# Altium footprint library Header.PcbLib: 27 footprints (part 2 of 2)
Each footprint in its own frame and in the unit in brackets; x right, y up, seen from the top. Pads: shape width x height; smd on the part's side, far side on the other; paste and mask are expansions set on the pad; w line width, h text height; cw(c..) or ccw(c..) is an arc to the next point about the centre after c.
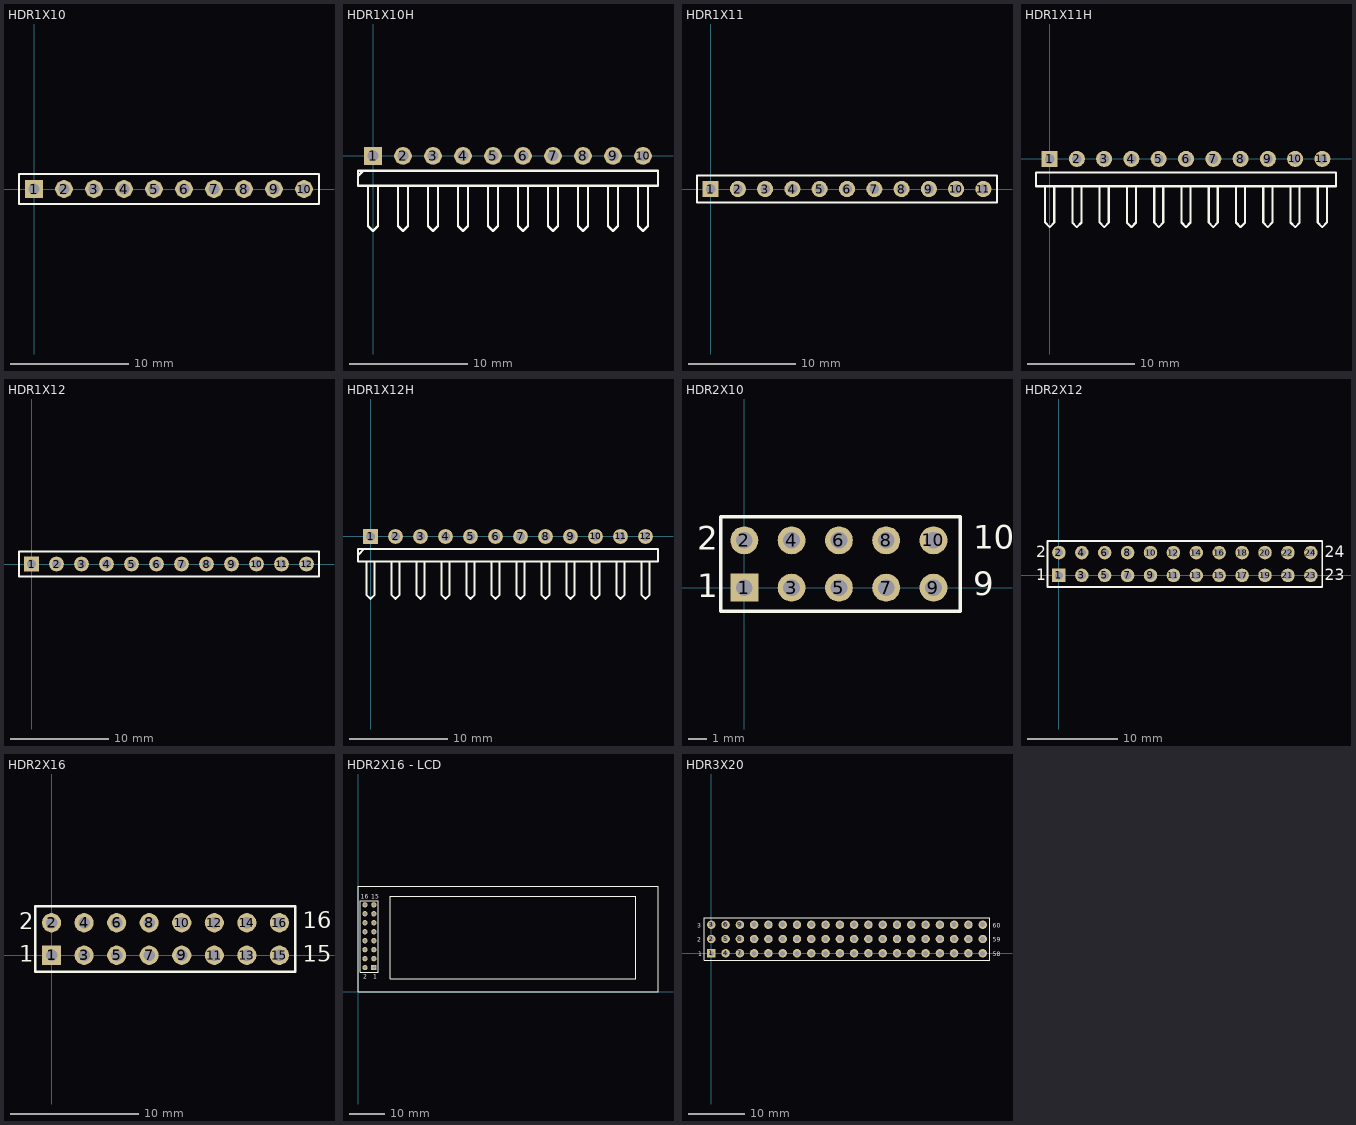
[diagram p1: the footprints below, top view; thin cyan lines are the x and y axes]

## HDR1X10 [mm] "Connector; Header; 10 Position"
height 2.2
pads (10):
  rect 1.5x1.5 hole 0.9: 1(0,0)
  round 1.5 hole 0.9: 2(2.54,0) 3(5.08,0) 4(7.62,0) 5(10.16,0) 6(12.7,0) 7(15.24,0) 8(17.78,0) 9(20.32,0) 10(22.86,0)
Top Overlay:
  lines w0.2: -1.27,-1.27 -1.27,1.27 0.635,1.27 24.13,1.27 24.13,-1.27 -1.27,-1.27
3D body "SW3dPS-0_1inch pin strip10.step": height 10.1, standoff -1.5, extent -1.27,-1.27 24.13,1.27

## HDR1X10H [mm] "Connector; Header; 10 Position; Right Angle"
height 2.2
pads (10):
  rect 1.5x1.5 hole 0.9: 1(0,0)
  round 1.5 hole 0.9: 2(2.54,0) 3(5.08,0) 4(7.62,0) 5(10.16,0) 6(12.7,0) 7(15.24,0) 8(17.78,0) 9(20.32,0) 10(22.86,0)
Top Overlay:
  lines w0.2: -1.27,-1.693 -0.847,-1.27 ; -0.423,-2.54 -0.423,-5.927 0,-6.35 0.423,-5.927 0.423,-2.54 ; 2.117,-2.54 2.117,-5.927 2.54,-6.35 2.963,-5.927 2.963,-2.54 ; 4.657,-2.54 4.657,-5.927 5.08,-6.35 5.503,-5.927 5.503,-2.54 ; 7.197,-2.54 7.197,-5.927 7.62,-6.35 8.043,-5.927 8.043,-2.54 ; 9.737,-2.54 9.737,-5.927 10.16,-6.35 10.583,-5.927 10.583,-2.54 ; 12.277,-2.54 12.277,-5.927 12.7,-6.35 13.123,-5.927 13.123,-2.54 ; 14.817,-2.54 14.817,-5.927 15.24,-6.35 15.663,-5.927 15.663,-2.54 ; 17.357,-2.54 17.357,-5.927 17.78,-6.35 18.203,-5.927 18.203,-2.54 ; 19.897,-2.54 19.897,-5.927 20.32,-6.35 20.743,-5.927 20.743,-2.54 ; 22.437,-2.54 22.437,-5.927 22.86,-6.35 23.283,-5.927 23.283,-2.54 ; -1.27,-2.54 24.13,-2.54 24.13,-1.27 0.635,-1.27 -1.27,-1.27 -1.27,-2.54
3D body "SW3dPS-0_1inch pin strip right angle10.step": height 4.33, standoff -3, extent -1.27,-7 24.13,1.27

## HDR1X11 [mm] "Connector; Header; 11 Position"
height 2.2
pads (11):
  rect 1.5x1.5 hole 0.9: 1(0,0)
  round 1.5 hole 0.9: 2(2.54,0) 3(5.08,0) 4(7.62,0) 5(10.16,0) 6(12.7,0) 7(15.24,0) 8(17.78,0) 9(20.32,0) 10(22.86,0) 11(25.4,0)
Top Overlay:
  lines w0.2: -1.27,-1.27 -1.27,1.27 0.635,1.27 26.67,1.27 26.67,-1.27 -1.27,-1.27
3D body "SW3dPS-0_1inch pin strip11.step": height 10.1, standoff -1.5, extent -1.27,-1.27 26.67,1.27

## HDR1X11H [mm] "Connector; Header; 11 Position; Right Angle"
height 2.2
pads (11):
  rect 1.5x1.5 hole 0.9: 1(0,0)
  round 1.5 hole 0.9: 2(2.54,0) 3(5.08,0) 4(7.62,0) 5(10.16,0) 6(12.7,0) 7(15.24,0) 8(17.78,0) 9(20.32,0) 10(22.86,0) 11(25.4,0)
Top Overlay:
  lines w0.2: -0.423,-2.54 -0.423,-5.927 0,-6.35 0.423,-5.927 0.423,-2.54 ; 2.117,-2.54 2.117,-5.927 2.54,-6.35 2.963,-5.927 2.963,-2.54 ; 4.657,-2.54 4.657,-5.927 5.08,-6.35 5.503,-5.927 5.503,-2.54 ; 7.197,-2.54 7.197,-5.927 7.62,-6.35 8.043,-5.927 8.043,-2.54 ; 9.737,-2.54 9.737,-5.927 10.16,-6.35 10.583,-5.927 10.583,-2.54 ; 12.277,-2.54 12.277,-5.927 12.7,-6.35 13.123,-5.927 13.123,-2.54 ; 14.817,-2.54 14.817,-5.927 15.24,-6.35 15.663,-5.927 15.663,-2.54 ; 17.357,-2.54 17.357,-5.927 17.78,-6.35 18.203,-5.927 18.203,-2.54 ; 19.897,-2.54 19.897,-5.927 20.32,-6.35 20.743,-5.927 20.743,-2.54 ; 22.437,-2.54 22.437,-5.927 22.86,-6.35 23.283,-5.927 23.283,-2.54 ; 24.977,-2.54 24.977,-5.927 25.4,-6.35 25.823,-5.927 25.823,-2.54 ; -1.27,-2.54 26.67,-2.54 26.67,-1.27 -1.27,-1.27 -1.27,-2.54
3D body "SW3dPS-0_1inch pin strip right angle11.step": height 4.33, standoff -3, extent -1.27,-7 26.67,1.27

## HDR1X12 [mm] "Connector; Header; 12 Position"
height 2.2
pads (12):
  rect 1.5x1.5 hole 0.9: 1(0,0)
  round 1.5 hole 0.9: 2(2.54,0) 3(5.08,0) 4(7.62,0) 5(10.16,0) 6(12.7,0) 7(15.24,0) 8(17.78,0) 9(20.32,0) 10(22.86,0) 11(25.4,0) 12(27.94,0)
Top Overlay:
  lines w0.2: -1.27,-1.27 29.21,-1.27 29.21,1.27 0.635,1.27 -1.27,1.27 -1.27,-1.27
3D body "SW3dPS-0_1inch pin strip12.step": height 10.1, standoff -1.5, extent -1.27,-1.27 29.21,1.27

## HDR1X12H [mm] "Connector; Header; 12 Position; Right Angle"
height 2.2
pads (12):
  rect 1.5x1.5 hole 0.9: 1(0,0)
  round 1.5 hole 0.9: 2(2.54,0) 3(5.08,0) 4(7.62,0) 5(10.16,0) 6(12.7,0) 7(15.24,0) 8(17.78,0) 9(20.32,0) 10(22.86,0) 11(25.4,0) 12(27.94,0)
Top Overlay:
  lines w0.2: -1.27,-1.905 -0.635,-1.27 ; -0.423,-2.54 -0.423,-5.927 0,-6.35 0.423,-5.927 0.423,-2.54 ; 2.117,-2.54 2.117,-5.927 2.54,-6.35 2.963,-5.927 2.963,-2.54 ; 4.657,-2.54 4.657,-5.927 5.08,-6.35 5.503,-5.927 5.503,-2.54 ; 7.197,-2.54 7.197,-5.927 7.62,-6.35 8.043,-5.927 8.043,-2.54 ; 9.737,-2.54 9.737,-5.927 10.16,-6.35 10.583,-5.927 10.583,-2.54 ; 12.277,-2.54 12.277,-5.927 12.7,-6.35 13.123,-5.927 13.123,-2.54 ; 14.817,-2.54 14.817,-5.927 15.24,-6.35 15.663,-5.927 15.663,-2.54 ; 17.357,-2.54 17.357,-5.927 17.78,-6.35 18.203,-5.927 18.203,-2.54 ; 19.897,-2.54 19.897,-5.927 20.32,-6.35 20.743,-5.927 20.743,-2.54 ; 22.437,-2.54 22.437,-5.927 22.86,-6.35 23.283,-5.927 23.283,-2.54 ; 24.977,-2.54 24.977,-5.927 25.4,-6.35 25.823,-5.927 25.823,-2.54 ; 27.517,-2.54 27.517,-5.927 27.94,-6.35 28.363,-5.927 28.363,-2.54 ; -1.27,-2.54 -1.27,-1.27 0.635,-1.27 29.21,-1.27 29.21,-2.54 -1.27,-2.54
3D body "SW3dPS-0_1inch pin strip right angle12.step": height 4.33, standoff -3, extent -1.27,-7 29.21,1.27

## HDR2X10 [mm] "Connector; Header; 25x2 Position"
pads (10):
  rect 1.5x1.5 hole 0.9: 1(0,0)
  round 1.5 hole 0.9: 2(0,2.54) 3(2.54,0) 4(2.54,2.54) 5(5.08,0) 6(5.08,2.54) 7(7.62,0) 8(7.62,2.54) 9(10.16,0) 10(10.16,2.54)
Top Overlay:
  lines w0.2: -1.27,-1.27 -1.27,3.81 11.6,3.81 11.6,-1.27 -1.27,-1.27
  text "2" at -2.54,2.032 h1.27
  text "1" at -2.54,-0.508 h1.27
  text "9" at 12.3,-0.4 h1.27
  text "10" at 12.3,2.1 h1.27
3D body "SW3dPS-0_1_inch_double row_pin strip5.step": height 10.1, standoff -1.5, extent -1.27,-1.27 11.43,3.81

## HDR2X12 [mm] "Connector; Header; 12x2 Position"
pads (24):
  rect 1.5x1.5 hole 0.9: 1(0,0)
  round 1.5 hole 0.9: 2(0,2.54) 3(2.54,0) 4(2.54,2.54) 5(5.08,0) 6(5.08,2.54) 7(7.62,0) 8(7.62,2.54) 9(10.16,0) 10(10.16,2.54) 11(12.7,0) 12(12.7,2.54) 13(15.24,0) 14(15.24,2.54) 15(17.78,0) 16(17.78,2.54) 17(20.32,0) 18(20.32,2.54) 19(22.86,0) 20(22.86,2.54) 21(25.4,0) 22(25.4,2.54) 23(27.94,0) 24(27.94,2.54)
Top Overlay:
  lines w0.2: -1.27,-1.27 -1.27,3.81 29.21,3.81 29.21,-1.27 -1.27,-1.27
  text "1" at -2.54,-0.508 h1.27
  text "2" at -2.54,2.032 h1.27
  text "23" at 29.464,-0.508 h1.27
  text "24" at 29.464,2.032 h1.27
3D body "HDR2X12V_Header12V.step": height 10.1, standoff -1.5, extent -1.27,-1.27 29.21,3.81

## HDR2X16 [mm] "Connector; Header; 25x2 Position"
pads (16):
  rect 1.5x1.5 hole 0.9: 1(0,0)
  round 1.5 hole 0.9: 2(0,2.54) 3(2.54,0) 4(2.54,2.54) 5(5.08,0) 6(5.08,2.54) 7(7.62,0) 8(7.62,2.54) 9(10.16,0) 10(10.16,2.54) 11(12.7,0) 12(12.7,2.54) 13(15.24,0) 14(15.24,2.54) 15(17.78,0) 16(17.78,2.54)
Top Overlay:
  lines w0.2: -1.27,-1.27 19,-1.27 19,3.81 -1.27,3.81 -1.27,-1.27
  text "16" at 19.6,2.1 h1.27
  text "15" at 19.6,-0.5 h1.27
  text "1" at -2.54,-0.508 h1.27
  text "2" at -2.54,2.032 h1.27
3D body "SW3dPS-0_1_inch_double row_pin strip8.step": height 10.1, standoff -1.5, extent -1.27,-1.27 19.05,3.81

## HDR2X16 - LCD [mm] "Connector; Header; 25x2 Position"
pads (16):
  rect 1.5x1.5 hole 0.9: 1(4.5,6.9)
  round 1.5 hole 0.9: 2(1.96,6.9) 3(4.5,9.44) 4(1.96,9.44) 5(4.5,11.98) 6(1.96,11.98) 7(4.5,14.52) 8(1.96,14.52) 9(4.5,17.06) 10(1.96,17.06) 11(4.5,19.6) 12(1.96,19.6) 13(4.5,22.14) 14(1.96,22.14) 15(4.5,24.68) 16(1.96,24.68)
Top Overlay:
  lines w0.2: 0.69,5.63 5.77,5.63 5.77,25.9 0.69,25.9 0.69,5.63
  lines w0.254: 1.9,6.9 1.96,6.9 ; 1.96,0 1.9,0 2.1,0 ; 0,0 85,0 85,30 0,30 0,0 ; 9.1,3.7 9.1,27.1 78.7,27.1 78.7,3.7 9.1,3.7
  text "2" at 1.5,3.7 h1.27
  text "1" at 4.3,3.7 h1.27
  text "15" at 3.7,26.4 h1.27
  text "16" at 0.8,26.4 h1.27

## HDR3X20 [mm] "Connector; Header; 25x2 Position"
pads (60):
  rect 1.5x1.5 hole 0.9: 1(0,0)
  round 1.5 hole 0.9: 2(0,2.54) 3(0,5.08) 4(2.54,0) 5(2.54,2.54) 6(2.54,5.08) 7(5.08,0) 8(5.08,2.54) 9(5.08,5.08) 10(7.62,0) 11(7.62,2.54) 12(7.62,5.08) 13(10.16,0) 14(10.16,2.54) 15(10.16,5.08) 16(12.7,0) 17(12.7,2.54) 18(12.7,5.08) 19(15.24,0) 20(15.24,2.54) 21(15.24,5.08) 22(17.78,0) 23(17.78,2.54) 24(17.78,5.08) 25(20.32,0) 26(20.32,2.54) 27(20.32,5.08) 28(22.86,0) 29(22.86,2.54) 30(22.86,5.08) 31(25.4,0) 32(25.4,2.54) 33(25.4,5.08) 34(27.94,0) 35(27.94,2.54) 36(27.94,5.08) 37(30.48,0) 38(30.48,2.54) 39(30.48,5.08) 40(33.02,0) 41(33.02,2.54) 42(33.02,5.08) 43(35.56,0) 44(35.56,2.54) 45(35.56,5.08) 46(38.1,0) 47(38.1,2.54) 48(38.1,5.08) 49(40.64,0) 50(40.64,2.54) 51(40.64,5.08) 52(43.18,0) 53(43.18,2.54) 54(43.18,5.08) 55(45.72,0) 56(45.72,2.54) 57(45.72,5.08) 58(48.26,0) 59(48.26,2.54) 60(48.26,5.08)
Top Overlay:
  lines w0.2: -1.27,-1.27 49.53,-1.27 49.53,6.35 -1.27,6.35 -1.27,-1.27
  text "60" at 50.038,4.572 h0.76
  text "59" at 50.038,2.032 h0.76
  text "58" at 50.038,-0.508 h0.76
  text "3" at -2.54,4.572 h0.76
  text "1" at -2.286,-0.508 h0.76
  text "2" at -2.54,2.032 h0.76
3D body "SW3dPS-0_1inch pin strip20.step": height 0.99, standoff -10.61, extent -1.27,-1.27 49.53,1.27
3D body "SW3dPS-0_1inch pin strip20.step": height 0.99, standoff -10.61, extent -1.27,1.27 49.53,3.81
3D body "SW3dPS-0_1inch pin strip20.step": height 0.99, standoff -10.61, extent -1.27,3.81 49.53,6.35